# EAGLE library part RF4463F30 (library Radio EV1)
Radio
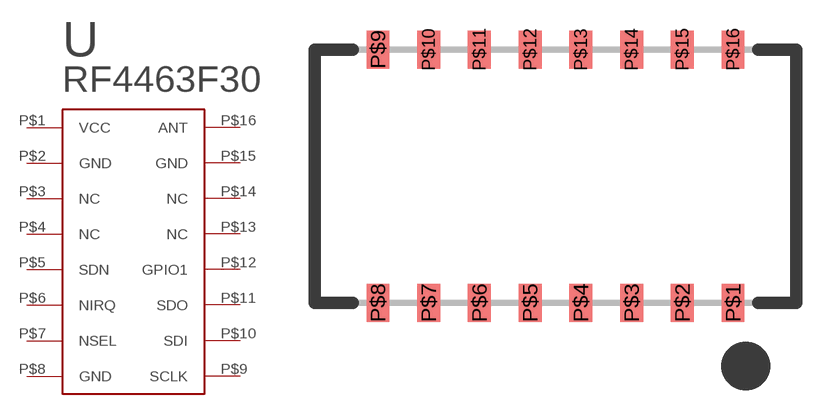
[diagram p0: symbol with the pads of RF4463F30; footprint RF4463F30]

Designator prefix -

## RF4463F30  [RF4463F30]
P$1  VCC  pwr
P$2  GND  pwr
P$3  NC  nc
P$4  NC  nc
P$5  SDN
P$6  NIRQ
P$7  NSEL
P$8  GND  pwr
P$9  SCLK
P$10  SDI
P$11  SDO
P$12  GPIO1
P$13  NC  nc
P$14  NC  nc
P$15  GND  pwr
P$16  ANT

## Footprint RF4463F30 (pad centres in mm)
smd 1.8 x 3: P$1 33,-20; P$2 29,-20; P$3 25,-20; P$4 21,-20; P$5 17,-20; P$6 13,-20; P$7 9,-20; P$8 5,-20; P$9 5,0; P$10 9,0; P$11 13,0; P$12 17,0; P$13 21,0; P$14 25,0; P$15 29,0; P$16 33,0